# Altium schematic symbol library WCAP-AWG5.SchLib: 1 symbol
Pins are listed as number, name and electrical type; pins without a type are passive.

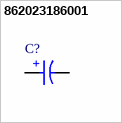
[diagram p0: symbol 862023186001]

## 862023186001
designator C?, comment 1600µF  (value not drawn)
WCAP-AWG5 Aluminum Electrolytic Capacitor, Screw Mount, D35 x H66mm, 1600µF, 360V (DC); Manufacturer Part Number: 862023186001; Manufacturer: Wurth Elektronik; Dissipation Factor: 15%; Leakage Current: 1600µA; Category: Aluminum Electrolytic Capacitors; Match Code: WCAP-AWG5; ComponentLink1Description: Website Link; ComponentLink1URL: https://www.we-online.com/redexpert/article/862023186001?ad; ComponentLink2Description: Datasheet Link; ComponentLink2URL: https://www.we-online.com/redexpert/spec/862023186001?ad; Mount: Screw; Min Operating Temperature: -40°C; Max Operating Temperature: 85°C; Packaging: Tape and Reel; Height: 66mm; Diameter: 35mm; Capacitance: 1600µF; Rated Voltage: 360V (DC)
footprint WCAP-AWG5_D35H66
pins: 1 P, 2 N
text: +